# Altium schematic symbol library AVR.SchLib: 9 symbols
Pins are listed as number, name and electrical type; pins without a type are passive.

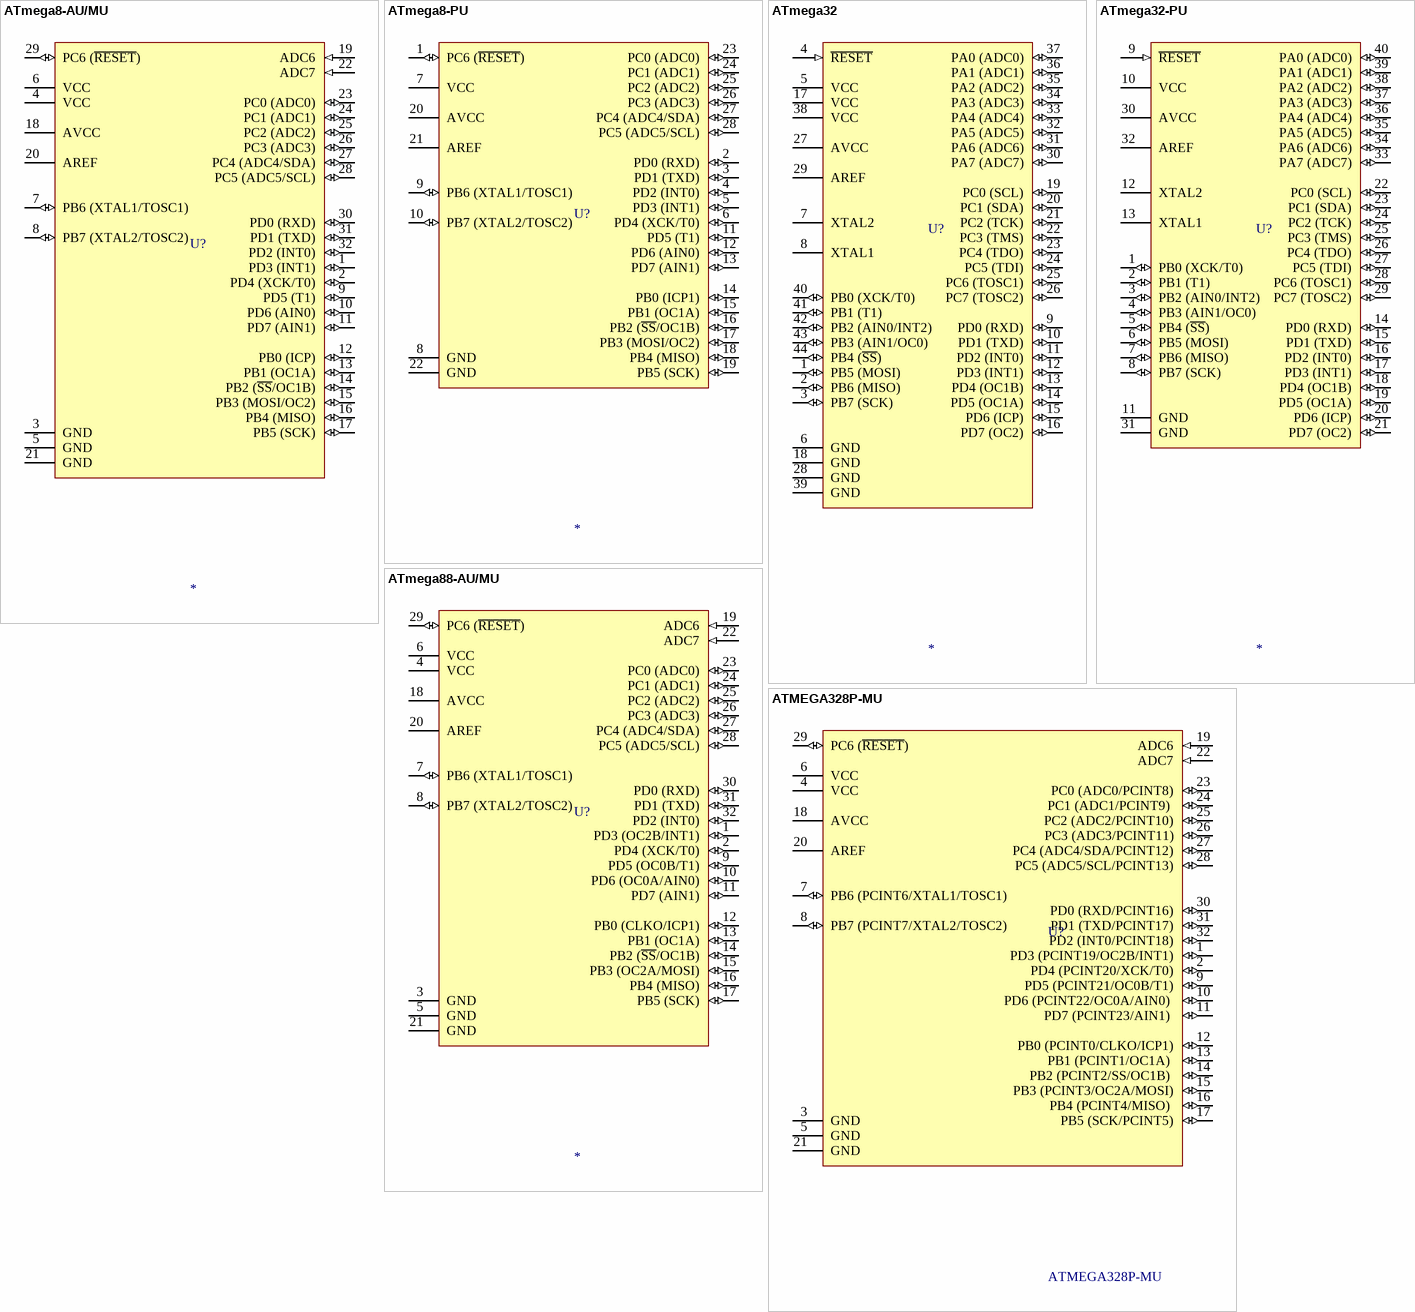
[diagram p0: symbols ATmega8-AU/MU to ATMEGA328P-MU]

## ATmega8-AU/MU
designator U?
TQFP - 32pin / MLF - 32pin; DatasheetVersion: revZ, Feb-2011; PackageVersion: revC, Oct-2010; PackageReference: 32A; PackageDescription: 32-Lead, 7x7x1.0 mm Body, 0.8mm Lead Pitch, Thin Profile Plastic Quad Flat Package (TQFP); Code_JEDEC: MS-026-ABA; ComponentLink1Description: Manufacturer URL; ComponentLink1URL: http://www.atmel.com/; ComponentLink2Description: ATmega8(L); ComponentLink2URL: http://www.atmel.com/dyn/resources/prod_documents/doc2486.pdf; ComponentLink3Description: ATmega8(L) Summary; ComponentLink3URL: http://www.atmel.com/dyn/resources/prod_documents/2486S.pdf
footprint TQFP-32A
pins: 1 PD3 (INT1) (io), 2 PD4 (XCK/T0) (io), 3 GND (power), 4 VCC (power), 5 GND (power), 6 VCC (power), 7 PB6 (XTAL1/TOSC1) (io), 8 PB7 (XTAL2/TOSC2) (io), 9 PD5 (T1) (io), 10 PD6 (AIN0) (io), 11 PD7 (AIN1) (io), 12 PB0 (ICP) (io), 13 PB1 (OC1A) (io), 14 PB2 (~{SS}/OC1B) (io), 15 PB3 (MOSI/OC2) (io), 16 PB4 (MISO) (io), 17 PB5 (SCK) (io), 18 AVCC (power), 19 ADC6 (in), 20 AREF, 21 GND (power), 22 ADC7 (in), 23 PC0 (ADC0) (io), 24 PC1 (ADC1) (io), 25 PC2 (ADC2) (io), 26 PC3 (ADC3) (io), 27 PC4 (ADC4/SDA) (io), 28 PC5 (ADC5/SCL) (io), 29 PC6 (~{RESET}) (io), 30 PD0 (RXD) (io), 31 PD1 (TXD) (io), 32 PD2 (INT0) (io)

## ATmega8-PU
designator U?
DIP - 28pin; DatasheetVersion: revD, Feb-2011; PackageVersion: revB, Sep-2001; PackageReference: 28P3; PackageDescription: 28-lead (0.300"/7.62mm Wide) Plastic Dual Inline Package (PDIP); ComponentLink1Description: Manufacturer URL; ComponentLink1URL: http://www.atmel.com/; ComponentLink2Description: ATmega8A Datasheet; ComponentLink2URL: http://www.atmel.com/dyn/resources/prod_documents/doc8159.pdf; ComponentLink3Description: ATmega8A Summary; ComponentLink3URL: http://www.atmel.com/dyn/resources/prod_documents/8159S.pdf
footprint DIP-28P3
pins: 1 PC6 (~{RESET}) (io), 2 PD0 (RXD) (io), 3 PD1 (TXD) (io), 4 PD2 (INT0) (io), 5 PD3 (INT1) (io), 6 PD4 (XCK/T0) (io), 7 VCC (power), 8 GND (power), 9 PB6 (XTAL1/TOSC1) (io), 10 PB7 (XTAL2/TOSC2) (io), 11 PD5 (T1) (io), 12 PD6 (AIN0) (io), 13 PD7 (AIN1) (io), 14 PB0 (ICP1) (io), 15 PB1 (OC1A) (io), 16 PB2 (~{SS}/OC1B) (io), 17 PB3 (MOSI/OC2) (io), 18 PB4 (MISO) (io), 19 PB5 (SCK) (io), 20 AVCC (power), 21 AREF, 22 GND (power), 23 PC0 (ADC0) (io), 24 PC1 (ADC1) (io), 25 PC2 (ADC2) (io), 26 PC3 (ADC3) (io), 27 PC4 (ADC4/SDA) (io), 28 PC5 (ADC5/SCL) (io)

## ATmega32
designator U?
TQFP - 44pin / MLF - 44pin
footprint TQFP-44A (QFP; 44 Leads; Body 10 x 10 mm; Pitch 0.8 mm)
pins: 1 PB5 (MOSI) (io), 2 PB6 (MISO) (io), 3 PB7 (SCK) (io), 4 ~{RESET} (in), 5 VCC (power), 6 GND (power), 7 XTAL2, 8 XTAL1, 9 PD0 (RXD) (io), 10 PD1 (TXD) (io), 11 PD2 (INT0) (io), 12 PD3 (INT1) (io), 13 PD4 (OC1B) (io), 14 PD5 (OC1A) (io), 15 PD6 (ICP) (io), 16 PD7 (OC2) (io), 17 VCC (power), 18 GND (power), 19 PC0 (SCL) (io), 20 PC1 (SDA) (io), 21 PC2 (TCK) (io), 22 PC3 (TMS) (io), 23 PC4 (TDO) (io), 24 PC5 (TDI) (io), 25 PC6 (TOSC1) (io), 26 PC7 (TOSC2) (io), 27 AVCC (power), 28 GND (power), 29 AREF, 30 PA7 (ADC7) (io), 31 PA6 (ADC6) (io), 32 PA5 (ADC5) (io), 33 PA4 (ADC4) (io), 34 PA3 (ADC3) (io), 35 PA2 (ADC2) (io), 36 PA1 (ADC1) (io), 37 PA0 (ADC0) (io), 38 VCC (power), 39 GND (power), 40 PB0 (XCK/T0) (io), 41 PB1 (T1) (io), 42 PB2 (AIN0/INT2) (io), 43 PB3 (AIN1/OC0) (io), 44 PB4 (~{SS}) (io)

## ATmega32-PU
designator U?
DIP - 40; DatasheetVersion: revQ, Feb-2011; PackageVersion: revB, Sep-2001; PackageReference: 40P6; PackageDescription: 40-lead (0.600"/15.24mm Wide) Plastic Dual Inline Package (PDIP); Code_JEDEC: MS-011-AC; ComponentLink1Description: Manufacturer URL; ComponentLink1URL: http://www.atmel.com/; ComponentLink2Description: ATmega32(L) Datasheet; ComponentLink2URL: http://atmel.com/dyn/resources/prod_documents/doc2503.pdf; ComponentLink3Description: ATmega32(L) Summary; ComponentLink3URL: http://atmel.com/dyn/resources/prod_documents/2503S.pdf
footprint DIP-40
pins: 1 PB0 (XCK/T0) (io), 2 PB1 (T1) (io), 3 PB2 (AIN0/INT2) (io), 4 PB3 (AIN1/OC0) (io), 5 PB4 (~{SS}) (io), 6 PB5 (MOSI) (io), 7 PB6 (MISO) (io), 8 PB7 (SCK) (io), 9 ~{RESET} (in), 10 VCC (power), 11 GND (power), 12 XTAL2, 13 XTAL1, 14 PD0 (RXD) (io), 15 PD1 (TXD) (io), 16 PD2 (INT0) (io), 17 PD3 (INT1) (io), 18 PD4 (OC1B) (io), 19 PD5 (OC1A) (io), 20 PD6 (ICP) (io), 21 PD7 (OC2) (io), 22 PC0 (SCL) (io), 23 PC1 (SDA) (io), 24 PC2 (TCK) (io), 25 PC3 (TMS) (io), 26 PC4 (TDO) (io), 27 PC5 (TDI) (io), 28 PC6 (TOSC1) (io), 29 PC7 (TOSC2) (io), 30 AVCC (power), 31 GND (power), 32 AREF, 33 PA7 (ADC7) (io), 34 PA6 (ADC6) (io), 35 PA5 (ADC5) (io), 36 PA4 (ADC4) (io), 37 PA3 (ADC3) (io), 38 PA2 (ADC2) (io), 39 PA1 (ADC1) (io), 40 PA0 (ADC0) (io)

## ATmega88-AU/MU
designator U?
TQFP - 32pin / MLF - 32pin; DatasheetVersion: revT, May-2011; PackageVersion: revC, Oct-2010; PackageReference: 32A; PackageDescription: 32-Lead, 7x7x1.0 mm Body, 0.8mm Lead Pitch, Thin Profile Plastic Quad Flat Package (TQFP); Code_JEDEC: MS-026-ABA; ComponentLink1Description: Manufacturer URL; ComponentLink1URL: http://www.atmel.com/; ComponentLink2Description: ATmega48/88/168 Datasheet; ComponentLink2URL: http://www.atmel.com/dyn/resources/prod_documents/doc2545.pdf; ComponentLink3Description: ATmega48/88/168 Summary; ComponentLink3URL: http://www.atmel.com/dyn/resources/prod_documents/2545S.pdf
footprint TQFP-32A
pins: 1 PD3 (OC2B/INT1) (io), 2 PD4 (XCK/T0) (io), 3 GND (power), 4 VCC (power), 5 GND (power), 6 VCC (power), 7 PB6 (XTAL1/TOSC1) (io), 8 PB7 (XTAL2/TOSC2) (io), 9 PD5 (OC0B/T1) (io), 10 PD6 (OC0A/AIN0) (io), 11 PD7 (AIN1) (io), 12 PB0 (CLKO/ICP1) (io), 13 PB1 (OC1A) (io), 14 PB2 (~{SS}/OC1B) (io), 15 PB3 (OC2A/MOSI) (io), 16 PB4 (MISO) (io), 17 PB5 (SCK) (io), 18 AVCC (power), 19 ADC6 (in), 20 AREF, 21 GND (power), 22 ADC7 (in), 23 PC0 (ADC0) (io), 24 PC1 (ADC1) (io), 25 PC2 (ADC2) (io), 26 PC3 (ADC3) (io), 27 PC4 (ADC4/SDA) (io), 28 PC5 (ADC5/SCL) (io), 29 PC6 (~{RESET}) (io), 30 PD0 (RXD) (io), 31 PD1 (TXD) (io), 32 PD2 (INT0) (io)

## ATMEGA328P-MU
designator U?
TQFP - 32pin / MLF - 32pin; DatasheetVersion: revT, May-2011; PackageVersion: revC, Oct-2010; PackageReference: 32A; PackageDescription: 32-Lead, 7x7x1.0 mm Body, 0.8mm Lead Pitch, Thin Profile Plastic Quad Flat Package (TQFP); Code_JEDEC: MS-026-ABA; ComponentLink1Description: Manufacturer URL; ComponentLink1URL: http://www.atmel.com/; ComponentLink2Description: ATmega48/88/168 Datasheet; ComponentLink2URL: http://www.atmel.com/dyn/resources/prod_documents/doc2545.pdf; ComponentLink3Description: ATmega48/88/168 Summary; ComponentLink3URL: http://www.atmel.com/dyn/resources/prod_documents/2545S.pdf
footprint TQFP-32A
footprint QFN5X5-32 (Quad Flat No Lead; 32 Terminals; Body 5 x 5 mm; Pitch 0.5 mm)
footprint QFN5X5-32V (Quad Flat No Lead; 32 Terminals; Body 5 x 5 mm; Pitch 0.5 mm)
pins: 1 PD3 (PCINT19/OC2B/INT1) (io), 2 PD4 (PCINT20/XCK/T0) (io), 3 GND (power), 4 VCC (power), 5 GND (power), 6 VCC (power), 7 PB6 (PCINT6/XTAL1/TOSC1) (io), 8 PB7 (PCINT7/XTAL2/TOSC2) (io), 9 PD5 (PCINT21/OC0B/T1) (io), 10 PD6 (PCINT22/OC0A/AIN0)  (io), 11 PD7 (PCINT23/AIN1)  (io), 12 PB0 (PCINT0/CLKO/ICP1) (io), 13 PB1 (PCINT1/OC1A)  (io), 14 PB2 (PCINT2/SS/OC1B)  (io), 15 PB3 (PCINT3/OC2A/MOSI) (io), 16 PB4 (PCINT4/MISO)  (io), 17 PB5 (SCK/PCINT5) (io), 18 AVCC (power), 19 ADC6 (in), 20 AREF, 21 GND (power), 22 ADC7 (in), 23 PC0 (ADC0/PCINT8) (io), 24 PC1 (ADC1/PCINT9)  (io), 25 PC2 (ADC2/PCINT10) (io), 26 PC3 (ADC3/PCINT11) (io), 27 PC4 (ADC4/SDA/PCINT12) (io), 28 PC5 (ADC5/SCL/PCINT13) (io), 29 PC6 (~{RESET}) (io), 30 PD0 (RXD/PCINT16) (io), 31 PD1 (TXD/PCINT17) (io), 32 PD2 (INT0/PCINT18) (io)

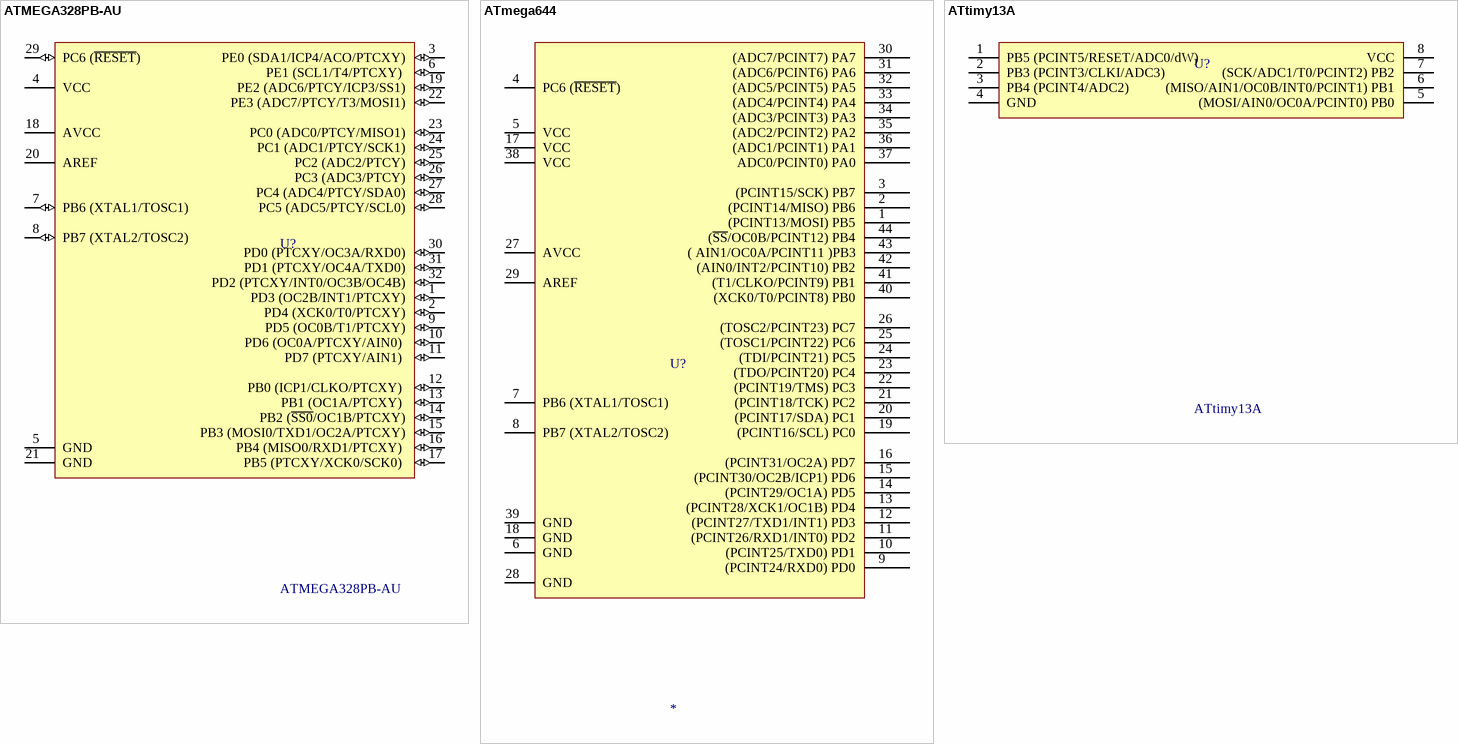
[diagram p1: symbols ATMEGA328PB-AU to ATtimy13A]

## ATMEGA328PB-AU
designator U?
TQFP - 32pin / MLF - 32pin; DatasheetVersion: revT, May-2011; PackageVersion: revC, Oct-2010; PackageReference: 32A; PackageDescription: 32-Lead, 7x7x1.0 mm Body, 0.8mm Lead Pitch, Thin Profile Plastic Quad Flat Package (TQFP); Code_JEDEC: MS-026-ABA; ComponentLink1Description: Manufacturer URL; ComponentLink1URL: http://www.atmel.com/; ComponentLink2Description: ATmega48/88/168 Datasheet; ComponentLink2URL: http://www.atmel.com/dyn/resources/prod_documents/doc2545.pdf; ComponentLink3Description: ATmega48/88/168 Summary; ComponentLink3URL: http://www.atmel.com/dyn/resources/prod_documents/2545S.pdf
footprint TQFP-32A
footprint QFN5X5-32 (Quad Flat No Lead; 32 Terminals; Body 5 x 5 mm; Pitch 0.5 mm)
footprint QFN5X5-32V (Quad Flat No Lead; 32 Terminals; Body 5 x 5 mm; Pitch 0.5 mm)
pins: 1 PD3 (OC2B/INT1/PTCXY) (io), 2 PD4 (XCK0/T0/PTCXY) (io), 3 PE0 (SDA1/ICP4/ACO/PTCXY) (io), 4 VCC (power), 5 GND (power), 6 PE1 (SCL1/T4/PTCXY)  (io), 7 PB6 (XTAL1/TOSC1) (io), 8 PB7 (XTAL2/TOSC2) (io), 9 PD5 (OC0B/T1/PTCXY) (io), 10 PD6 (OC0A/PTCXY/AIN0)  (io), 11 PD7 (PTCXY/AIN1)  (io), 12 PB0 (ICP1/CLKO/PTCXY)  (io), 13 PB1 (OC1A/PTCXY)  (io), 14 PB2 (~{SS0}/OC1B/PTCXY) (io), 15 PB3 (MOSI0/TXD1/OC2A/PTCXY) (io), 16 PB4 (MISO0/RXD1/PTCXY)  (io), 17 PB5 (PTCXY/XCK0/SCK0)  (io), 18 AVCC (power), 19 PE2 (ADC6/PTCY/ICP3/SS1) (io), 20 AREF, 21 GND (power), 22 PE3 (ADC7/PTCY/T3/MOSI1) (io), 23 PC0 (ADC0/PTCY/MISO1) (io), 24 PC1 (ADC1/PTCY/SCK1) (io), 25 PC2 (ADC2/PTCY) (io), 26 PC3 (ADC3/PTCY) (io), 27 PC4 (ADC4/PTCY/SDA0) (io), 28 PC5 (ADC5/PTCY/SCL0) (io), 29 PC6 (~{RESET}) (io), 30 PD0 (PTCXY/OC3A/RXD0) (io), 31 PD1 (PTCXY/OC4A/TXD0) (io), 32 PD2 (PTCXY/INT0/OC3B/OC4B) (io)

## ATmega644
designator U?
TQFP - 44pin / MLF - 44pin
footprint TQFP-44A (QFP; 44 Leads; Body 10 x 10 mm; Pitch 0.8 mm)
pins: 1 (PCINT13/MOSI) PB5, 2 (PCINT14/MISO) PB6, 3 (PCINT15/SCK) PB7, 4 PC6 (~{RESET}), 5 VCC (power), 6 GND (power), 7 PB6 (XTAL1/TOSC1), 8 PB7 (XTAL2/TOSC2), 9 (PCINT24/RXD0) PD0, 10 (PCINT25/TXD0) PD1, 11 (PCINT26/RXD1/INT0) PD2, 12 (PCINT27/TXD1/INT1) PD3, 13 (PCINT28/XCK1/OC1B) PD4, 14 (PCINT29/OC1A) PD5, 15 (PCINT30/OC2B/ICP1) PD6, 16 (PCINT31/OC2A) PD7, 17 VCC (power), 18 GND (power), 19 (PCINT16/SCL) PC0, 20 (PCINT17/SDA) PC1, 21 (PCINT18/TCK) PC2, 22 (PCINT19/TMS) PC3, 23 (TDO/PCINT20) PC4, 24 (TDI/PCINT21) PC5, 25 (TOSC1/PCINT22) PC6, 26 (TOSC2/PCINT23) PC7, 27 AVCC (power), 28 GND (power), 29 AREF, 30 (ADC7/PCINT7) PA7, 31 (ADC6/PCINT6) PA6, 32 (ADC5/PCINT5) PA5, 33 (ADC4/PCINT4) PA4, 34 (ADC3/PCINT3) PA3, 35 (ADC2/PCINT2) PA2, 36 (ADC1/PCINT1) PA1, 37 ADC0/PCINT0) PA0, 38 VCC (power), 39 GND (power), 40 (XCK0/T0/PCINT8) PB0, 41 (T1/CLKO/PCINT9) PB1, 42 (AIN0/INT2/PCINT10) PB2, 43 ( AIN1/OC0A/PCINT11 )PB3, 44 (~{SS}/OC0B/PCINT12) PB4

## ATtimy13A
designator U?
8-PDIP/SOIC
footprint SO-8
footprint DIP-8
pins: 1 PB5 (PCINT5/RESET/ADC0/dW) (power), 2 PB3 (PCINT3/CLKI/ADC3) (power), 3 PB4 (PCINT4/ADC2)  (power), 4 GND (power), 5 (MOSI/AIN0/OC0A/PCINT0) PB0 (power), 6 (MISO/AIN1/OC0B/INT0/PCINT1) PB1 (power), 7 (SCK/ADC1/T0/PCINT2) PB2 (power), 8 VCC (power)